# EAGLE library part AD5761R (library SmartMDC)
Multiple Range, 16-/12-Bit, Bipolar/Unipolar Voltage Output DACs with 2 ppm/°C Reference
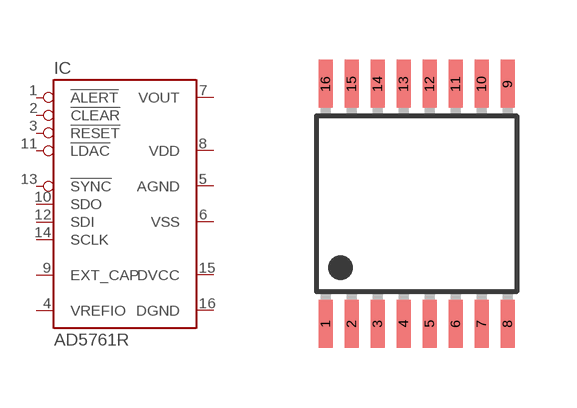
[diagram p14: symbol with the pads of TSSOP16; footprint TSSOP16]

Designator prefix IC

## AD5761RBRUZ  [TSSOP16]
1  !ALERT  out
2  !CLEAR  in
3  !RESET  in
4  VREFIO
5  AGND  pwr
6  VSS  pwr
7  VOUT  out
8  VDD  pwr
9  EXT_CAP  out
10  SDO  out
11  !LDAC  in
12  SDI  in
13  !SYNC  in
14  SCLK  in
15  DVCC  pwr
16  DGND  pwr

## Footprint TSSOP16 (pad centres in mm)
smd 0.35 x 1.2: 1 -2.275,-3; 2 -1.625,-3; 3 -0.975,-3; 4 -0.325,-3; 5 0.325,-3; 6 0.975,-3; 7 1.625,-3; 8 2.275,-3; 9 2.275,3; 10 1.625,3; 11 0.975,3; 12 0.325,3; 13 -0.325,3; 14 -0.975,3; 15 -1.625,3; 16 -2.275,3